# Altium schematic symbol library V0_Umbilical.SCHLIB: 33 symbols
Pins are listed as number, name and electrical type; pins without a type are passive.

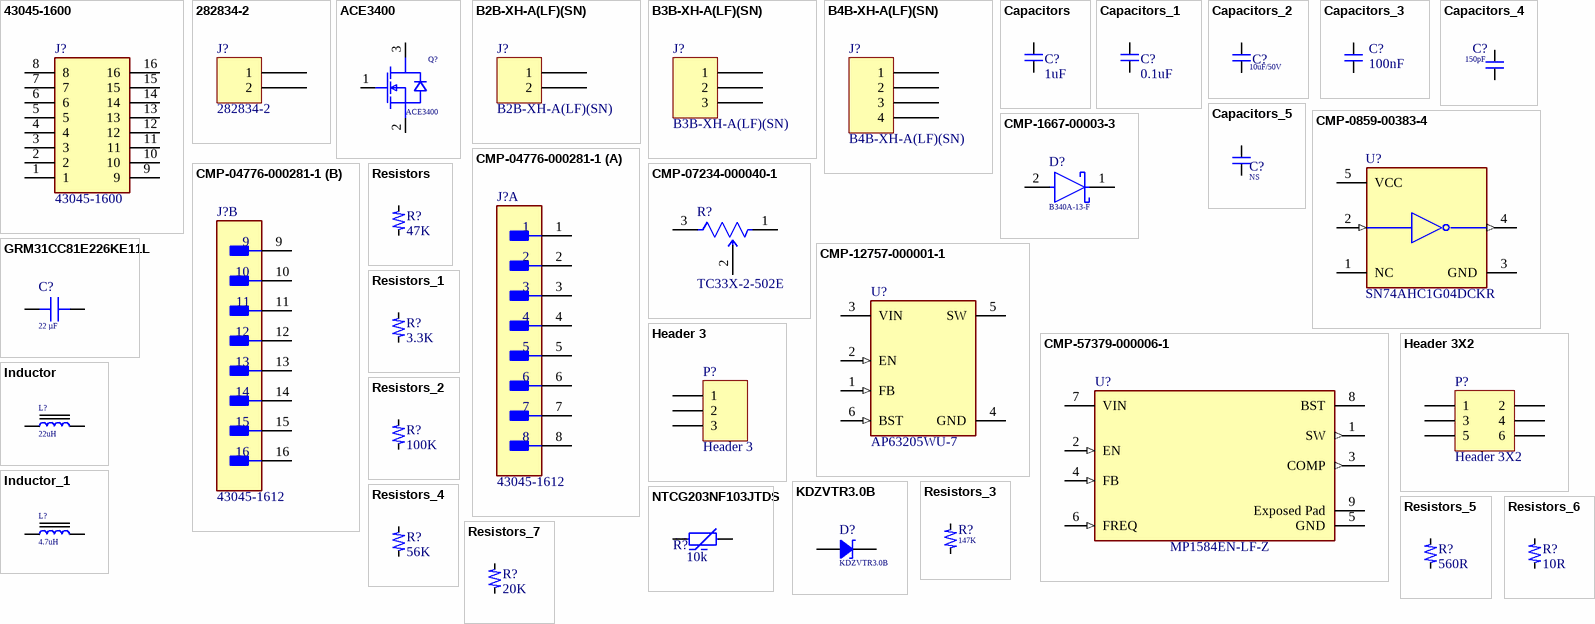
[diagram p0: symbols 43045-1600 to Resistors_7]

## 43045-1600
designator J?
Connector; Manufacturer_Name: Molex; Datasheet Link: https://www.molex.com/pdm_docs/sd/430450200_sd.pdf; Height: 8.77mm; Manufacturer_Part_Number: 43045-1600; Mouser Part Number: 538-43045-1600; Mouser Price/Stock: https://www.mouser.co.uk/ProductDetail/Molex/43045-1600?qs=SeTnVz%252B%252BFGBdrqGVXFHXvQ%3D%3D
footprint 43045-16(00,01,02,10)
pins: 1, 2, 3, 4, 5, 6, 7, 8, 9, 10, 11, 12, 13, 14, 15, 16

## 282834-2
designator J?
TERM BLK 2P SIDE ENT 2.54MM PCB; Manufacturer: TE Connectivity AMP Connectors; Current: 10A; Mating Orientation: Horizontal with Board; Number of Levels: 1; Pitch: 0.100" (2.54mm); Positions Per Level: 2; Voltage: 150V; Wire Gauge: 16-30 AWG; Wire Termination: Screw - Rising Cage Clamp; Part Number: 282834-2; Color: Green; ComponentLink1Description: Datasheet; ComponentLink1URL: https://www.te.com/commerce/DocumentDelivery/DDEController?Action=srchrtrv&DocNm=282834&DocType=Customer+Drawing&DocLang=English; ComponentLink2Description: DigiKey Link; ComponentLink2URL: http://digikey.com/product-detail/en/te-connectivity-amp-connectors/282834-2/A98333-ND/1150135; LastUpdated: 2020/1/15 上午 04:15:38; Lifecycle Status: Active; Minimum Order: 1; Mounting Type: Through Hole; Packaging: Bulk; Part Status: Active; Price: 0.88; Series: Buchanan; Supplier 1: DigiKey; Supplier Part Number 1: A98333-ND
footprint TE 282834-2
pins: 1, 2

## ACE3400
designator Q?
footprint SOT23-3
pins: 1 G, 2 S, 3 D

## B2B-XH-A(LF)(SN)
designator J?
CONN HEADER VERT 2POS 2.5MM; Manufacturer: JST Sales America Inc.; Contact Length - Post: 0.134" (3.40mm); Current Rating (Amps): 3A; Material Flammability Rating: UL94 V-0; Number of Positions: 2; Number of Positions Loaded: All; Pitch - Mating: 0.098" (2.50mm); Shrouding: Shrouded - 4 Wall; Style: Board to Cable/Wire; Voltage Rating: 250V; Part Number: B2B-XH-A(LF)(SN); ComponentLink1Description: Datasheet; ComponentLink1URL: http://www.jst-mfg.com/product/pdf/eng/eXH.pdf; ComponentLink2Description: DigiKey Link; ComponentLink2URL: http://digikey.com/product-detail/en/jst-sales-america-inc/B2B-XH-A-LF-SN/455-2247-ND/1651045; Connector Type: Header; Contact Finish - Mating: Tin; Contact Finish - Post: Tin; Contact Material: Brass; Contact Shape: Square; Contact Type: Male Pin; Fastening Type: Detent Lock; Insulation Color: Natural; Insulation Height: 0.276" (7.00mm); Insulation Material: Polyamide (PA66), Nylon 6/6; LastUpdated: 2020/1/12 下午 11:46:08; Lifecycle Status: Active; Minimum Order: 1; Mounting Type: Through Hole; Number of Rows: 1; Operating Temperature: -25°C ~ 85°C; Packaging: Bulk; PartId: 67; Part Status: Active; Price: 0.15; Series: XH; Supplier 1: DigiKey; Supplier Part Number 1: 455-2247-ND; Termination: Press-Fit, Solder
footprint JST XH B2B-XH-A
pins: 1, 2

## B3B-XH-A(LF)(SN)
designator J?
CONN HEADER VERT 3POS 2.5MM; Manufacturer: JST Sales America Inc.; Contact Length - Post: 0.134" (3.40mm); Current Rating (Amps): 3A; Material Flammability Rating: UL94 V-0; Number of Positions: 3; Number of Positions Loaded: All; Pitch - Mating: 0.098" (2.50mm); Shrouding: Shrouded - 4 Wall; Style: Board to Cable/Wire; Voltage Rating: 250V; Part Number: B3B-XH-A(LF)(SN); ComponentLink1Description: Datasheet; ComponentLink1URL: http://www.jst-mfg.com/product/pdf/eng/eXH.pdf; ComponentLink2Description: DigiKey Link; ComponentLink2URL: http://digikey.com/product-detail/en/jst-sales-america-inc/B3B-XH-A-LF-SN/455-2248-ND/1651046; Connector Type: Header; Contact Finish - Mating: Tin; Contact Finish - Post: Tin; Contact Material: Brass; Contact Shape: Square; Contact Type: Male Pin; Fastening Type: Detent Lock; Insulation Color: Natural; Insulation Height: 0.276" (7.00mm); Insulation Material: Polyamide (PA66), Nylon 6/6; LastUpdated: 2020/1/12 下午 11:46:22; Lifecycle Status: Active; Minimum Order: 1; Mounting Type: Through Hole; Number of Rows: 1; Operating Temperature: -25°C ~ 85°C; Packaging: Bulk; PartId: 68; Part Status: Active; Price: 0.19; Series: XH; Supplier 1: DigiKey; Supplier Part Number 1: 455-2248-ND; Termination: Press-Fit, Solder
footprint JST XH B3B-XH-A
pins: 1, 2, 3

## B4B-XH-A(LF)(SN)
designator J?
CONN HEADER VERT 4POS 2.5MM; Manufacturer: JST Sales America Inc.; Contact Length - Post: 0.134" (3.40mm); Current Rating (Amps): 3A; Material Flammability Rating: UL94 V-0; Number of Positions: 4; Number of Positions Loaded: All; Pitch - Mating: 0.098" (2.50mm); Shrouding: Shrouded - 4 Wall; Style: Board to Cable/Wire; Voltage Rating: 250V; Part Number: B4B-XH-A(LF)(SN); ComponentLink1Description: Datasheet; ComponentLink1URL: http://www.jst-mfg.com/product/pdf/eng/eXH.pdf; ComponentLink2Description: DigiKey Link; ComponentLink2URL: http://digikey.com/product-detail/en/jst-sales-america-inc/B4B-XH-A-LF-SN/455-2249-ND/1651047; Connector Type: Header; Contact Finish - Mating: Tin; Contact Finish - Post: Tin; Contact Material: Brass; Contact Shape: Square; Contact Type: Male Pin; Fastening Type: Detent Lock; Insulation Color: Natural; Insulation Height: 0.276" (7.00mm); Insulation Material: Polyamide (PA66), Nylon 6/6; LastUpdated: 2020/1/12 下午 11:46:34; Lifecycle Status: Active; Minimum Order: 1; Mounting Type: Through Hole; Number of Rows: 1; Operating Temperature: -25°C ~ 85°C; Packaging: Bulk; PartId: 69; Part Status: Active; Price: 0.21; Series: XH; Supplier 1: DigiKey; Supplier Part Number 1: 455-2249-ND; Termination: Press-Fit, Solder
footprint JST XH B4B-XH-A
pins: 1, 2, 3, 4

## Capacitors
designator C?, comment 1uF
footprint 0201 R (1/20W)
footprint 0402 R (1/16W)
footprint 0603 R (1/10W)
footprint 0805 R (1/8W)
footprint 01005 R (1/32W)
footprint 1206 R (1/4W)
footprint 1210 R (1/2W)
footprint 1812 R (1/2W)
footprint 2010 R (3/4W)
footprint 2512 R (1W)
footprint 2.5 DIP CAP
pins: 1, 2

## Capacitors_1
designator C?, comment 0.1uF
footprint 0201 R (1/20W)
footprint 0402 R (1/16W)
footprint 0603 R (1/10W)
footprint 0805 R (1/8W)
footprint 01005 R (1/32W)
footprint 1206 R (1/4W)
footprint 1210 R (1/2W)
footprint 1812 R (1/2W)
footprint 2010 R (3/4W)
footprint 2512 R (1W)
footprint 2.5 DIP CAP
pins: 1, 2

## Capacitors_2
designator C?, comment 10uF/50V
footprint 0201 R (1/20W)
footprint 0402 R (1/16W)
footprint 0603 R (1/10W)
footprint 0805 R (1/8W)
footprint 01005 R (1/32W)
footprint 1206 R (1/4W)
footprint 1210 R (1/2W)
footprint 1812 R (1/2W)
footprint 2010 R (3/4W)
footprint 2512 R (1W)
footprint 2.5 DIP CAP
pins: 1, 2

## Capacitors_3
designator C?, comment 100nF
footprint 0201 R (1/20W)
footprint 0402 R (1/16W)
footprint 0603 R (1/10W)
footprint 0805 R (1/8W)
footprint 01005 R (1/32W)
footprint 1206 R (1/4W)
footprint 1210 R (1/2W)
footprint 1812 R (1/2W)
footprint 2010 R (3/4W)
footprint 2512 R (1W)
footprint 2.5 DIP CAP
pins: 1, 2

## Capacitors_4
designator C?, comment 150pF
footprint 0201 R (1/20W)
footprint 0402 R (1/16W)
footprint 0603 R (1/10W)
footprint 0805 R (1/8W)
footprint 01005 R (1/32W)
footprint 1206 R (1/4W)
footprint 1210 R (1/2W)
footprint 1812 R (1/2W)
footprint 2010 R (3/4W)
footprint 2512 R (1W)
footprint 2.5 DIP CAP
pins: 1, 2

## Capacitors_5
designator C?, comment NS
footprint 0201 R (1/20W)
footprint 0402 R (1/16W)
footprint 0603 R (1/10W)
footprint 0805 R (1/8W)
footprint 01005 R (1/32W)
footprint 1206 R (1/4W)
footprint 1210 R (1/2W)
footprint 1812 R (1/2W)
footprint 2010 R (3/4W)
footprint 2512 R (1W)
footprint 2.5 DIP CAP
pins: 1, 2

## CMP-0859-00383-4
designator U?, comment SN74AHC1G04DCKR
IC INVERTER 1CH 1-INP SC70-5; Manufacturer: Texas Instruments; Number Of Circuits: 1; Logic Function Desc: Inverting; Max Junction Temp: +150°C; Max Supply Voltage: 5.5V; Nominal Supply Current: 1uA; Standoff Height: 0mm; Min Supply Voltage: 2V; Height: 1.1mm; Temperature: -40°C to +125°C; Manufacturer Part Number: SN74AHC1G04DCKR; Temperature Range High: +125°C; Temperature Range Low: -40°C; Number Of Inputs: 1; Number Of Outputs: 1; RoHS: TRUE; Ambient Temperature Range Low: -40°C; Octopart: https://octopart.com/sn74ahc1g04dckr-texas+instruments-464403; Package: DCK0005A; Mouser Description: Inverter 1 Element CMOS 5-Pin SC-70 Tape and Reel; Ambient Temperature Range High: +125°C; Digikey Description: IC INVERTER 1CH 1-INP SC70-5; ComponentLink2Description: Datasheet; Automotive: No; Device Class L1: Integrated Circuits (ICs); Lead Free: Yes; Category: IC; ComponentLink2URL: http://www.ti.com/lit/ds/symlink/sn74ahc1g04.pdf; Device Class L3: Logic Gates; Device Class L2: Logic ICs
footprint FP-DCK0005A-MFG
footprint FP-DCK0005A-IPC_C
footprint FP-DCK0005A-IPC_B
footprint FP-DCK0005A-IPC_A
pins: 1 NC, 2 A (in), 3 GND (power), 4 Y (out), 5 VCC (power)

## CMP-1667-00003-3
designator D?, comment B340A-13-F
DIODE SCHOTTKY 40V 3A SMA; Manufacturer: Diodes; Max Forward Surge Current (Ifsm): 80A; Forward Voltage: 500mV; Polarity: Standard; Max Reverse Current: 500uA; Capacitance: 250pF; Element Configuration: Single; Mount: Surface Mount; Output Current: 3A; Radiation Hardening: No; Width: 2.92mm; Current Rating: 3A; Termination: SMD/SMT; Voltage: 40V; Series: -; Max Operating Temperature: 125°C; Current: 3A; Max Repetitive Reverse Voltage (Vrrm): 40V; Min Operating Temperature: -55°C; REACH SVHC: No SVHC; Number of Pins: 2; Average Rectified Current: 3A; Contact Plating: Tin; RoHS Compliant: Yes; Max Reverse Voltage (DC): 40V; Packaging: Tape and Reel; Height: 2.3mm; Length: 4.6mm; Case/Package: SMA; Weight: 0.002258oz; Peak Non-Repetitive Surge Current: 80A; Package Quantity: 5000; Lead Free: Lead Free; Forward Current: 3A; Voltage Rating (DC): 40V; Manufacturer Part Number: B340A-13-F
footprint FP-SMA-MFG
pins: 1 C, 2 A

## CMP-04776-000281-1
designator J?, comment 43045-1612
CONN HEADER VERT 16POS 3MM; Manufacturer: Molex; Insulation Resistance: 1GR; Working Voltage: 250V; Number of Poles: 16; Current Rating: 5A; Mating Cycles: 30; Contact Resistance: 10mR; Max Voltage Rating (DC): 250.25kV; Approvals: UL; Connector Type: Power; Voltage Rating: 600V; Gender: Male; Glow Wire Compliant: Compliant; Series: 43045; Number of Rows: 2; Depth: 8.77mm; RoHS Compliant: Yes; Packaging: Tray; Height: 9.91mm; Housing Material: Thermoplastic; Mount: Through Hole; Lead Free: Lead Free; Max Current Rating: 5A; Halogen Free: Low Halogen; Length: 28.15mm; Material: Polyester; Voltage Rating (AC): 250V; Max Operating Temperature: 105°C; Contact Plating: Tin; Termination: Solder; Color: Black; Contact Material: Brass; Min Operating Temperature: -40°C; REACH SVHC: No SVHC; Orientation: Vertical; Package Quantity: 792; Voltage Rating (DC): 250V; Row Spacing: 3mm; Number of Contacts: 16; Housing Color: Black; Pitch: 3mm; Number of Circuits: 16; Operating Supply Voltage: 250V; Number of Positions: 16; Flammability Rating: UL94 V-0; Manufacturer Part Number: 43045-1612
footprint FP-43045-1612-MFG
part A pins: 1, 2, 3, 4, 5, 6, 7, 8
part B pins: 9, 10, 11, 12, 13, 14, 15, 16

## CMP-07234-000040-1
designator R?, comment TC33X-2-502E
TRIMMER 5K OHM 0.1W J LEAD TOP; Manufacturer: Bourns; Manufacturer Part Number: TC33X-2-104E; Number of Turns: 1; Voltage Rating (DC): 50V; Power Rating: 100mW; Resistance Tolerance: 25%; Resistance: 100kR; Temperature Coefficient: 250ppm/°C; Max Operating Temperature: 100°C; Package Quantity: 2500; REACH SVHC: No SVHC; Termination: Foot Print; Packaging: Tape and Reel; RoHS Compliant: Yes; Military Standard: Not; Color: Silver; Width: 0.118inch; Min Operating Temperature: -40°C; Mount: Surface Mount; Height: 0.047inch; Tolerance: 25%; Resistor Type: Carbon; Length: 3mm; Depth: 3.8mm; Weight: 29.4mg; Max Power Dissipation: 100mW; Series: TC33; Radiation Hardening: No
footprint FP-TC33X-2-MFG
pins: 1 CCW, 2 WIPER, 3 CW

## CMP-12757-000001-1
designator U?, comment AP63205WU-7
IC REG BUCK 5V 2A TSOT26; Manufacturer: Diodes Inc.; Manufacturer: Diodes; Max Junction Temp: +160°C; Max Duty Cycle: 100%; Standoff Height: 0.01mm; Max Supply Voltage: 32V; Number Of Outputs: 1; Min Supply Voltage: 3.8V; Output Type: Fixed; Switching Frequency: 1100kHz; Nominal Supply Current: 22uA; Automotive: No; RoHS: TRUE; Switching Topology: Buck; Temperature: -40°C to +85°C; Footprint Url: https://www.diodes.com/assets/Package-Files/TSOT26.pdf; Lead Free: Yes; Digikey Description: IC REG BUCK 5V 2A TSOT26; Device Class L3: Voltage Regulators - Switching; Ambient Temperature Range High: +85°C; Category: IC; Package: TSOT26; Output Voltage: 5V; Output Current: 2A; ComponentLink2Description: Datasheet; Device Class L2: Power Management ICs; Ambient Temperature Range Low: -40°C; Temperature Range High: +85°C; Temperature Range Low: -40°C; Octopart: https://octopart.com/ap63205wu-7-diodes+inc.-98099551; Manufacturer Part Number: AP63205WU-7; Height: 1mm; Device Class L1: Integrated Circuits (ICs); ComponentLink2URL: https://www.diodes.com/assets/Datasheets/AP63200-AP63201-AP63203-AP63205.pdf
footprint FP-TSOT26-MFG
footprint FP-TSOT26-IPC_C
footprint FP-TSOT26-IPC_B
footprint FP-TSOT26-IPC_A
pins: 1 FB (in), 2 EN (in), 3 VIN (power), 4 GND (power), 5 SW (power), 6 BST (in)

## CMP-57379-000006-1
designator U?, comment MP1584EN-LF-Z
IC REG BUCK ADJ 3A; Manufacturer: Monolithic Power Systems; Output Type: AdjustableProgrammable; Nominal Supply Current: 100uA; Switching Frequency: 100-1500kHz; Max Power Dissipation: 2.5W; Output Voltage: 0.8-25V; Max Junction Temp: +125°C; Min Supply Voltage: 4.5V; Max Supply Voltage: 28V; Number Of Outputs: 1; Standoff Height: 0mm; ComponentLink2URL: https://www.monolithicpower.com/en/documentview/productdocument/index/doc_url/L01QMTU4NF9yMS4wLnBkZg%3D%3D/release_date/MjAwOS0wNC0wOSAwMDowMDowMA%3D%3D/; Lead Free: Yes; Package: MP1584EN-LF-Z; Temperature Range Low: -20°C; Temperature: -20°C to +125°C; Height: 1.7mm; Ambient Temperature Range Low: -20°C; RoHS: TRUE; Automotive: No; Ipc Land Pattern Name: SOIC127P600X150-8; Ambient Temperature Range High: +85°C; Device Class L2: Power Management ICs; ComponentLink2Description: Datasheet; Manufacturer Part Number: MP1584EN-LF-Z; Device Class L3: Voltage Regulators - Switching; Octopart: https://octopart.com/mp1584en-lf-z-monolithic+power+systems-18629680; Category: IC; Output Current: 3A; Digikey Description: IC REG BUCK ADJ 3A; Temperature Range High: +125°C; Device Class L1: Integrated Circuits (ICs); Switching Topology: Buck
footprint FP-MP1584EN-LF-Z-MFG
footprint FP-MP1584EN-LF-Z-IPC_C
footprint FP-MP1584EN-LF-Z-IPC_B
footprint FP-MP1584EN-LF-Z-IPC_A
pins: 1 SW (out), 2 EN (in), 3 COMP (out), 4 FB (in), 5 GND (power), 6 FREQ (in), 7 VIN (power), 8 BST (power), 9 Exposed Pad (power)

## GRM31CC81E226KE11L
designator C?, comment 22 µF
CAP CER 22UF 25V X6S 1206; Part Number: GRM31CC81E226KE11L; manufacturer: Murata Electronics; Tolerance: ±10%; Applications: General Purpose; Capacitance: 22 µF; componentlink1description: Datasheet; componentlink1url: https://search.murata.co.jp/Ceramy/image/img/A01X/G101/ENG/GRM31CC81E226KE11-01.pdf; componentlink2description: DigiKey Link; componentlink2url: https://www.digikey.com/en/products/detail/murata-electronics/GRM31CC81E226KE11L/6606097; Device Package: 1206 (3216 Metric); lastupdated: 2022/9/19 下午 01:06:42; Lifecycle Status: Active; Minimum Order: 1; Mounting Type: Surface Mount, MLCC; Operating Temperature: -55°C ~ 105°C; Package / Case: 1206 (3216 Metric); packaging: TapeAndReel; partid: 31407; Part Status: Active; price: 0.33; series: GRM; Size / Dimension: 0.126" L x 0.063" W (3.20mm x 1.60mm); Supplier 1: DigiKey; Supplier Part Number 1: 490-14468-1-ND; Temperature Coefficient: X6S; Thickness (Max): 0.075" (1.90mm); Voltage - Rated: 25V; Value: 22 µF
footprint CAP 1206_3216 - 0.8MM
pins: 1, 2

## Header 3
designator P?
Header, 3-Pin; LatestRevisionDate: 17-Jul-2002; LatestRevisionNote: Re-released for DXP Platform.; Publisher: Altium Limited
footprint HDR1X3 (Connector; Header; 3 Position)
signal-integrity model Connector
pins: 1, 2, 3

## Header 3X2
designator P?
Header, 3-Pin, Dual row; LatestRevisionDate: 17-Jul-2002; LatestRevisionNote: Re-released for DXP Platform.; Publisher: Altium Limited
footprint HDR2X3 (Connector; Header; 3x2 Position)
signal-integrity model Connector
pins: 1, 2, 3, 4, 5, 6

## Inductor
designator L?, comment 22uH
footprint 0630 I (Inductor)
footprint 0850 I
pins: 1, 2

## Inductor_1
designator L?, comment 4.7uH
footprint 0630 I (Inductor)
footprint 0850 I
pins: 1, 2

## KDZVTR3.0B
designator D?
DIODE ZENER 3V 1W PMDU; Manufacturer: Rohm Semiconductor; Current - Reverse Leakage @ Vr: 100 µA @ 1 V; Tolerance: ±6.67%; Part Number: KDZVTR3.0B; ComponentLink1Description: Datasheet; ComponentLink1URL: https://www.rohm.com/datasheet/KDZV3.0B/kdzvtr3.0b-e; ComponentLink2Description: DigiKey Link; ComponentLink2URL: https://www.digikey.com/en/products/detail/rohm-semiconductor/KDZVTR3-0B/10670957; LastUpdated: 2022/9/19 下午 01:47:27; Lifecycle Status: Active; Minimum Order: 1; Mounting Type: Surface Mount; Operating Temperature: 150°C (TJ); Package / Case: SOD-123F; Packaging: TapeAndReel; PartId: 4172; Part Status: Active; Power - Max: 1 W; Price: 0.11; Series: -; Supplier 1: DigiKey; Supplier Part Number 1: 846-KDZVTR3.0BCT-ND; Supplier Device Package: PMDU; Voltage - Zener (Nom) (Vz): 3 V
footprint SOD123F
pins: 1, 2

## NTCG203NF103JTDS
designator R?, comment 10k
CASE EIA 0805 B= 1% ,10K? 5%; Part Number: NTCG203NF103JTDS; Manufacturer: TDK Corporation; B25/100: 3670K; B25/50: 3590K; B25/75: 3635K; B25/85: 3650K; Power - Max: 100mW; B Value Tolerance: ±1%; ComponentLink2Description: DigiKey Link; ComponentLink2URL: http://digikey.com/product-detail/en/tdk-corporation/NTCG203NF103JTDS/445-NTCG203NF103JTTR-ND/10820112; LastUpdated: 2020/8/30 下午 09:02:56; Lifecycle Status: Active; Minimum Order: 2000; Mounting Type: Surface Mount; Operating Temperature: -40°C ~ 125°C; Package / Case: 0805 (2012 Metric); Packaging: TapeAndReel; PartId: 1371; Price: 0.13; Resistance in Ohms @ 25°C: 10k; Resistance Tolerance: ±5%; Series: NTCG; Supplier 1: DigiKey; Supplier Part Number 1: 445-NTCG203NF103JTTR-ND; Value: 10k
footprint NTC 0805_2012
pins: 1, 2

## Resistors
designator R?, comment 47K
footprint 0201 R (1/20W)
footprint 0402 R (1/16W)
footprint 0603 R (1/10W)
footprint 0805 R (1/8W)
footprint 01005 R (1/32W)
footprint 1206 R (1/4W)
footprint 1210 R (1/2W)
footprint 1812 R (1/2W)
footprint 2010 R (3/4W)
footprint 2512 R (1W)
pins: 1, 2

## Resistors_1
designator R?, comment 3.3K
footprint 0201 R (1/20W)
footprint 0402 R (1/16W)
footprint 0603 R (1/10W)
footprint 0805 R (1/8W)
footprint 01005 R (1/32W)
footprint 1206 R (1/4W)
footprint 1210 R (1/2W)
footprint 1812 R (1/2W)
footprint 2010 R (3/4W)
footprint 2512 R (1W)
pins: 1, 2

## Resistors_2
designator R?, comment 100K
footprint 0201 R (1/20W)
footprint 0402 R (1/16W)
footprint 0603 R (1/10W)
footprint 0805 R (1/8W)
footprint 01005 R (1/32W)
footprint 1206 R (1/4W)
footprint 1210 R (1/2W)
footprint 1812 R (1/2W)
footprint 2010 R (3/4W)
footprint 2512 R (1W)
pins: 1, 2

## Resistors_3
designator R?, comment 147K
footprint 0201 R (1/20W)
footprint 0402 R (1/16W)
footprint 0603 R (1/10W)
footprint 0805 R (1/8W)
footprint 01005 R (1/32W)
footprint 1206 R (1/4W)
footprint 1210 R (1/2W)
footprint 1812 R (1/2W)
footprint 2010 R (3/4W)
footprint 2512 R (1W)
pins: 1, 2

## Resistors_4
designator R?, comment 56K
footprint 0201 R (1/20W)
footprint 0402 R (1/16W)
footprint 0603 R (1/10W)
footprint 0805 R (1/8W)
footprint 01005 R (1/32W)
footprint 1206 R (1/4W)
footprint 1210 R (1/2W)
footprint 1812 R (1/2W)
footprint 2010 R (3/4W)
footprint 2512 R (1W)
pins: 1, 2

## Resistors_5
designator R?, comment 560R
footprint 0201 R (1/20W)
footprint 0402 R (1/16W)
footprint 0603 R (1/10W)
footprint 0805 R (1/8W)
footprint 01005 R (1/32W)
footprint 1206 R (1/4W)
footprint 1210 R (1/2W)
footprint 1812 R (1/2W)
footprint 2010 R (3/4W)
footprint 2512 R (1W)
pins: 1, 2

## Resistors_6
designator R?, comment 10R
footprint 0201 R (1/20W)
footprint 0402 R (1/16W)
footprint 0603 R (1/10W)
footprint 0805 R (1/8W)
footprint 01005 R (1/32W)
footprint 1206 R (1/4W)
footprint 1210 R (1/2W)
footprint 1812 R (1/2W)
footprint 2010 R (3/4W)
footprint 2512 R (1W)
pins: 1, 2

## Resistors_7
designator R?, comment 20K
footprint 0201 R (1/20W)
footprint 0402 R (1/16W)
footprint 0603 R (1/10W)
footprint 0805 R (1/8W)
footprint 01005 R (1/32W)
footprint 1206 R (1/4W)
footprint 1210 R (1/2W)
footprint 1812 R (1/2W)
footprint 2010 R (3/4W)
footprint 2512 R (1W)
pins: 1, 2